# Altium footprint library MISC.PcbLib: 20 footprints (part 2 of 2)
Each footprint in its own frame and in the unit in brackets; x right, y up, seen from the top. Pads: shape width x height; smd on the part's side, far side on the other; paste and mask are expansions set on the pad; w line width, h text height; cw(c..) or ccw(c..) is an arc to the next point about the centre after c.
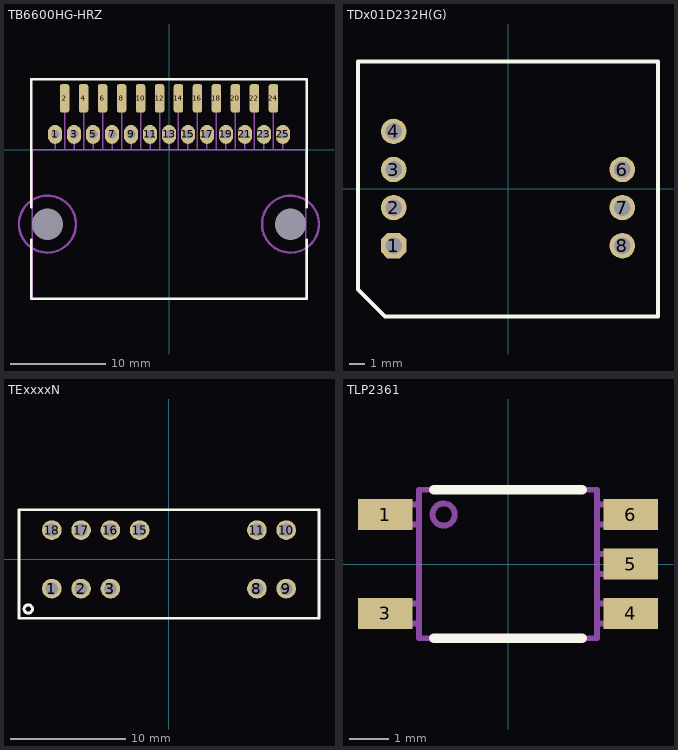
[diagram p1: the footprints below, top view; thin cyan lines are the x and y axes]

## TB6600HG-HRZ [mm]
pads (27):
  oval 1.5x2 hole 0.9: 1(-12,1.6) 3(-10,1.6) 5(-8,1.6) 7(-6,1.6) 9(-4,1.6) 11(-2,1.6) 13(0,1.6) 15(2,1.6) 17(4,1.6) 19(6,1.6) 21(8,1.6) 23(10,1.6) 25(12,1.6)
  rrect50% 1x3 smd: 2(-11,5.4) 4(-9,5.4) 6(-7,5.4) 8(-5,5.4) 10(-3,5.4) 12(-1,5.4) 14(1,5.4) 16(3,5.4) 18(5,5.4) 20(7,5.4) 22(9,5.4) 24(11,5.4)
  round 0 hole 3.3 unplated mask+2.5: -1(-12.8,-7.85) -1(12.8,-7.85)
Top Overlay:
  lines w0.25: -14.5,-9.5 -14.5,-15.7 14.5,-15.7 14.5,-9.5 ; -14.5,-6.1 -14.5,7.4 14.5,7.4 14.5,-6.1
Mechanical 1:
  circle w0.25: c12.8,-7.85 r3
  circle w0.25: c-12.8,-7.85 r3
Top Assembly:
  lines w0.15: -12,0 -12,1.4 ; -11,0 -11,6.7 ; -10,0 -10,1.4 ; -9,0 -9,6.7 ; -8,0 -8,1.4 ; -7,0 -7,6.7 ; -6,0 -6,1.4 ; -5,0 -5,6.7 ; -4,0 -4,1.4 ; -3,0 -3,6.7 ; -2,0 -2,1.4 ; -1,0 -1,6.7 ; 0,0 0,1.4 ; 1,0 1,6.7 ; 2,0 2,1.4 ; 3,0 3,6.7 ; 4,0 4,1.4 ; 5,0 5,6.7 ; 6,0 6,1.4 ; 7,0 7,6.7 ; 8,0 8,1.4 ; 9,0 9,6.7 ; 10,0 10,1.4 ; 11,0 11,6.7 ; 12,0 12,1.4 ; -14.4,-15.7 14.4,-15.7 14.4,0 -14.4,0 -14.4,-15.7
3D body "HZIP25-1_00F.step": height 4.55, standoff -3.86, extent -14.4,-15.655 14.4,6.845

## TDx01D232H(G) [mm]
pads (7):
  oct 1.7x1.7 hole 1.1: 1(-7.62,-3.81)
  round 1.7 hole 1.1: 2(-7.62,-1.27) 3(-7.62,1.27) 4(-7.62,3.81) 6(7.62,1.27) 7(7.62,-1.27) 8(7.62,-3.81)
Top Overlay:
  lines w0.25: -10,-6.73 -8.2,-8.53 10,-8.53 10,8.47 -10,8.47 -10,-6.73
Top Assembly:
  lines w0.15: -10,-6.73 -8.2,-8.53 10,-8.53 10,8.47 -10,8.47 -10,-6.73
3D body "TDx01D232H.stp": height 7, standoff -4.1, extent -10,-8.5 10,8.5

## TExxxxN [mm]
pads (11):
  round 1.7 hole 1.1: 1(-10.16,-2.54) 2(-7.62,-2.54) 3(-5.08,-2.54) 8(7.62,-2.54) 9(10.16,-2.54) 10(10.16,2.54) 11(7.62,2.54) 15(-2.54,2.54) 16(-5.08,2.54) 17(-7.62,2.54) 18(-10.16,2.54)
Top Overlay:
  circle w0.25: c-12.2,-4.3 r0.361
  lines w0.25: -13,-5.1 13,-5.1 13,4.3 -13,4.3 -13,-5.1
Top Assembly:
  circle w0.15: c-12.2,-4.3 r0.4
  lines w0.15: -13,-5.1 13,-5.1 13,4.3 -13,4.3 -13,-5.1
3D body "TExxxxN.stp": height 12.5, standoff -4.1, extent -13,-5.25 13,4.25

## TLP2361 [mm]
pads (5):
  rect 1.4x0.8 smd: 1(-3.15,1.27) 3(-3.15,-1.27) 4(3.15,-1.27) 5(3.15,0) 6(3.15,1.27)
Top Overlay:
  lines w0.25: -1.905,-1.905 1.905,-1.905 ; -1.905,1.905 1.905,1.905
Top Assembly:
  circle w0.15: c-1.651,1.27 r0.284
  lines w0.15: -3.429,-1.524 -2.286,-1.524 -2.286,-1.016 -3.429,-1.016 -3.429,-1.524 ; -3.429,1.016 -2.286,1.016 -2.286,1.524 -3.429,1.524 -3.429,1.016 ; -2.286,-1.905 2.286,-1.905 2.286,1.905 -2.286,1.905 -2.286,-1.905 ; 2.286,-1.524 3.429,-1.524 3.429,-1.016 2.286,-1.016 2.286,-1.524 ; 2.286,-0.254 3.429,-0.254 3.429,0.254 2.286,0.254 2.286,-0.254 ; 2.286,1.016 3.429,1.016 3.429,1.524 2.286,1.524 2.286,1.016
3D body "TLP2361.step": height 2.2, standoff 0, extent -3.514,-1.9 3.514,1.9